# Altium footprint library A_Passive.PcbLib: 83 footprints (part 3 of 6)
Each footprint in its own frame and in the unit in brackets; x right, y up, seen from the top. Pads: shape width x height; smd on the part's side, far side on the other; paste and mask are expansions set on the pad; w line width, h text height; cw(c..) or ccw(c..) is an arc to the next point about the centre after c.
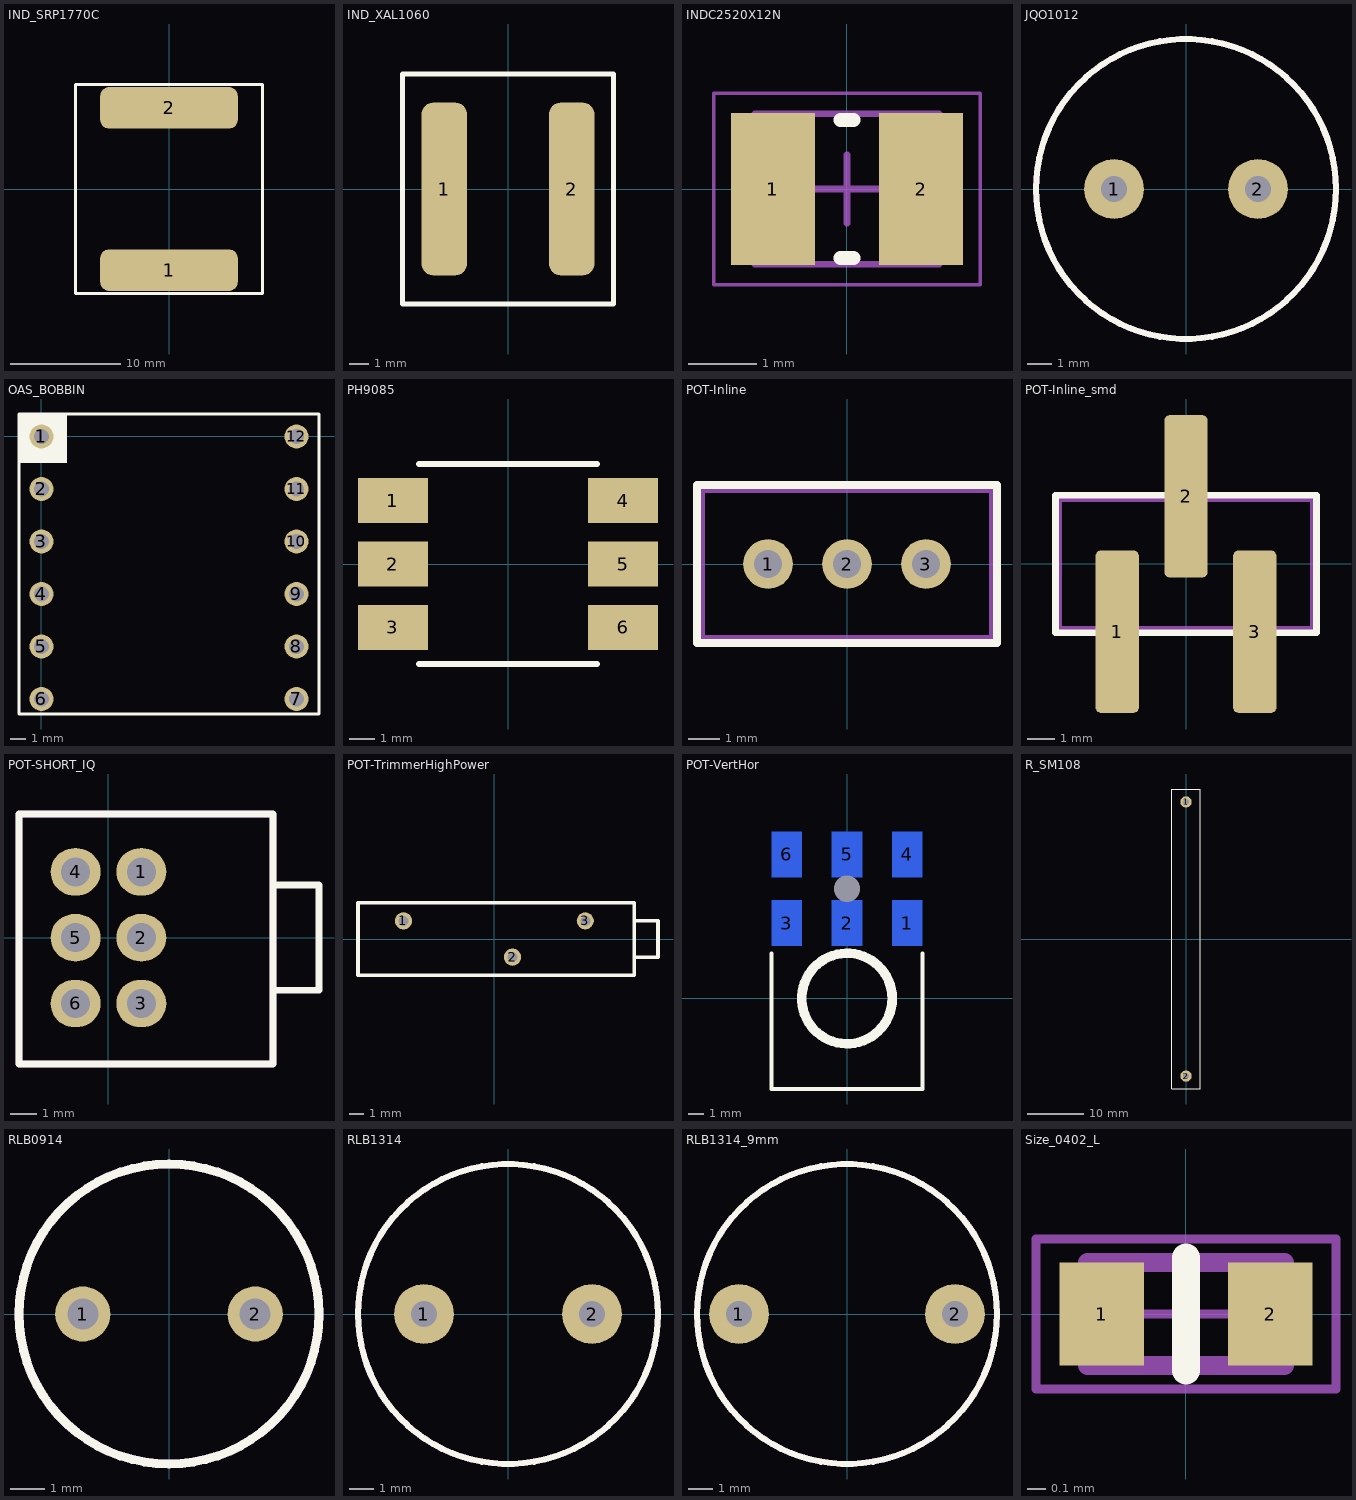
[diagram p2: the footprints below, top view; thin cyan lines are the x and y axes]

## IND_SRP1770C [mm]
pads (2):
  rrect40% 12.5x3.75 smd: 1(0,-7.375) 2(0,7.375)
Top Overlay:
  lines w0.254: -8.5,-9.5 8.5,-9.5 8.5,9.5 -8.5,9.5 -8.5,-9.5

## IND_XAL1060 [mm]
pads (2):
  rrect50% 2.38x9 smd mask+0.05: 1(-3.325,0) 2(3.325,0)
Top Overlay:
  lines w0.254: -5.5,-6 5.5,-6 5.5,6 -5.5,6 -5.5,-6
3D body "Coilcraft-XAL1060.step": height 6, standoff 0, extent -5.25,-5.9 5.25,5.9

## INDC2520X12N [mm] "Chip Inductor, 2-Leads, Body 2.50x2.00mm, IPC Medium Density"
height 1.2
pads (2):
  rect 1.23x2.22 smd: 1(-1.085,0) 2(1.085,0)
Top Overlay:
  lines w0.2: -0.1,-1.01 0.1,-1.01 ; -0.1,1.01 0.1,1.01
Mechanical 13:
  lines w0.1: -1.35,-1.1 -1.35,1.1 1.35,1.1 1.35,-1.1 -1.35,-1.1
Mechanical 15:
  lines w0.05: -1.95,-1.4 -1.95,1.4 1.95,1.4 1.95,-1.4 -1.95,-1.4
  lines w0.1: -0.5,0 0.5,0 ; 0,-0.5 0,0.5
3D body "INDC2520X12N.step": height 1.2, standoff 0, extent -1.35,-1.1 1.35,1.1

## JQO1012 [mm] "10uH inductor"
pads (2):
  round 2.5 hole 1.1: 1(-3,0) 2(3,0)
Top Overlay:
  circle w0.254: c0,0 r6.25
Mechanical 15:
  circle w0.254: c0,0 r6.25
3D body: height 13, standoff 1, extent -6.25,-6.247 6.25,6.247

## OAS_BOBBIN [mm]
pads (12):
  round 1.6 hole 1: 1(0,0) 2(0,-3.5) 3(0,-7) 4(0,-10.5) 5(0,-14) 6(0,-17.5) 7(17,-17.5) 8(17,-14) 9(17,-10.5) 10(17,-7) 11(17,-3.5) 12(17,0)
Top Overlay:
  region: -1.48,1.46 -1.48,-1.75 1.7,-1.75 1.7,1.46
  lines w0.2: -1.5,-18.5 18.5,-18.5 18.5,1.5 -1.5,1.5 -1.5,-18.5
3D body: height 2.5, standoff 0.5, extent -1.6,-18.6 18.6,1.6
3D body "44051.stp": height 10, standoff 2, extent 1.5,-15.5 15.5,-1.5

## PH9085 [mm]
pads (6):
  rect 2.8x1.8 smd: 1(-4.6,2.54) 2(-4.6,0) 3(-4.6,-2.54) 4(4.6,2.54) 5(4.6,0) 6(4.6,-2.54)
Top Overlay:
  lines w0.25: -3.55,-4 3.55,-4 ; -3.55,4 3.55,4

## POT-Inline [mm]
pads (3):
  round 1.6 hole 0.9 unplated paste+0: 1(-2.54,0) 2(0,0) 3(2.54,0)
Top Overlay:
  lines w0.254: -4.826,-2.54 -4.826,2.54 4.826,2.54 4.826,-2.54 -4.826,-2.54
Mechanical 13:
  lines w0.254: -4.699,-2.413 4.699,-2.413 4.699,2.413 -4.699,2.413 -4.699,-2.413
3D body "pv36w.stp": height 11.62, standoff -6.33, extent -4.763,-2.413 4.762,2.413

## POT-Inline_smd [mm]
pads (3):
  rrect25% 1.6x6 smd: 1(-2.54,-2.5) 2(0,2.5) 3(2.54,-2.5)
Top Overlay:
  lines w0.254: -4.826,-2.54 -4.826,2.54 4.826,2.54 4.826,-2.54 -4.826,-2.54
Mechanical 13:
  lines w0.254: -4.699,-2.413 4.699,-2.413 4.699,2.413 -4.699,2.413 -4.699,-2.413
3D body "pv36w.stp": height 11.62, standoff -6.33, extent -4.763,-2.413 4.762,2.413

## POT-SHORT_IQ [mm]
pads (6):
  oval 1.9x1.8 hole 1.1: 1(1.25,2.5) 2(1.25,0) 3(1.25,-2.5) 4(-1.25,2.5) 5(-1.25,0) 6(-1.25,-2.5)
Top Overlay:
  lines w0.254: 6.25,-2 8,-2 8,2 6.25,2 ; -3.4,-4.8 6.25,-4.8 6.25,4.7 -3.4,4.7 -3.4,-4.8
Mechanical 13:
  lines w0.254: -3.4,-4.8 -3.4,4.7 6.25,4.7 6.25,-4.8 -3.4,-4.8

## POT-TrimmerHighPower [mm]
pads (3):
  round 1.2 hole 0.7: 1(-6.35,1.27) 2(1.27,-1.27) 3(6.35,1.27)
Top Overlay:
  lines w0.254: 9.779,-1.27 11.43,-1.27 11.43,1.27 9.779,1.27 ; -9.525,-2.54 -9.525,2.54 9.779,2.54 9.779,-2.54 -9.525,-2.54
3D body "3006p.stp": height 6.6, standoff -4.93, extent -9.398,-2.413 11.176,2.413

## POT-VertHor [mm]
pads (7):
  rect 2x3 smd far side: 1(4,5) 2(0,5) 3(-4,5) 4(4,9.55) 5(0,9.55) 6(-4,9.55)
  rrect50% 0x0 hole 1.75 square unplated: 6(0,7.275)
Top Overlay:
  circle w0.635: c0,0 r3
  lines w0.254: -5,3 -5,-6 5,-6 5,3
Bottom Overlay:
  lines w1.5: -2,3.5 -2,11 ; 2,3.5 2,11

## R_SM108 [mm]
pads (2):
  round 2 hole 1 unplated: 1(0,24.13) 2(0,-24.13)
Top Overlay:
  lines w0.2: -2.5,-26.415 -2.5,26.415 2.5,26.415 2.5,-26.415 -2.5,-26.415
3D body "ohmite_SM108035006FE.stp": height 9.57, standoff -2.12, extent -0.441,-26.416 2.1,26.416

## RLB0914 [mm] "10uH inductor"
pads (2):
  round 1.6 hole 0.9: 1(-2.5,0) 2(2.5,0)
Top Overlay:
  circle w0.254: c0,0 r4.35
Mechanical 15:
  circle w0.254: c0,0 r4.35
3D body: height 13, standoff 1, extent -4.35,-4.348 4.35,4.349

## RLB1314 [mm] "10uH inductor"
pads (2):
  round 2.5 hole 1.1: 1(-3.5,0) 2(3.5,0)
Top Overlay:
  circle w0.254: c0,0 r6.25
Mechanical 15:
  circle w0.254: c0,0 r6.25
3D body: height 13, standoff 1, extent -6.25,-6.247 6.25,6.247

## RLB1314_9mm [mm] "10uH inductor"
pads (2):
  round 2.5 hole 1.1: 1(-4.5,0) 2(4.5,0)
Top Overlay:
  circle w0.254: c0,0 r6.25
Mechanical 15:
  circle w0.254: c0,0 r6.25
3D body: height 13, standoff 1, extent -6.25,-6.247 6.25,6.247

## Size_0402_L [mm] "Chip Resistor, Body 1.0x0.5mm, IPC High Density"
height 0.4
pads (2):
  rect 0.45x0.55 smd: 1(-0.45,0) 2(0.45,0)
Top Overlay:
  lines w0.15: 0,-0.3 0,0.3
Mechanical 13:
  lines w0.1: -0.525,-0.275 0.525,-0.275 0.525,0.275 -0.525,0.275 -0.525,-0.275
Mechanical 15:
  lines w0.05: -0.275,0 0.275,0 ; 0,-0.275 0,0.275 ; -0.8,-0.4 0.8,-0.4 0.8,0.4 -0.8,0.4 -0.8,-0.4
3D body "User Library-CR1005-0402.step": height 0.35, standoff 0, extent -0.5,-0.25 0.5,0.25